# Altium schematic symbol library Finished.SchLib: 7 symbols
Pins are listed as number, name and electrical type; pins without a type are passive.

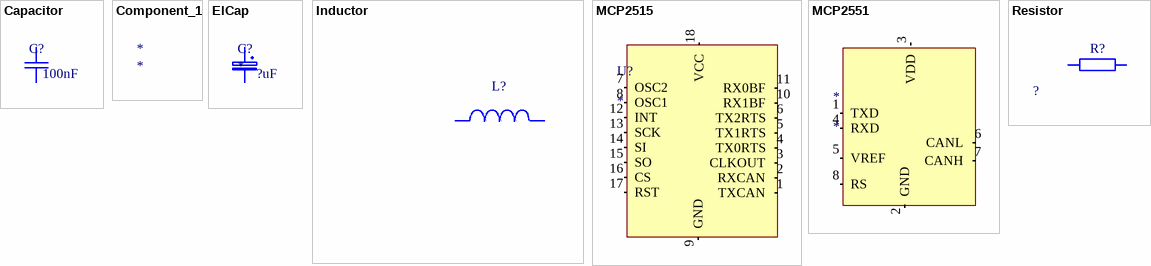
[diagram p0: symbols Capacitor to Resistor]

## Capacitor
designator C?  value 100nF
Voltage: 16V; Tolerance: 10%; Package: 0603
footprint 0603
pins: 1, 2

## Component_1
designator *

## ElCap
designator C?  value ?uF
Tolerance: 20%; Voltage: 16V
pins: 1, 2

## Inductor
designator L?
pins: 1, 2

## MCP2515
designator U?
ComponentLink1Description: MOUSER; ComponentLink1URL: https://no.mouser.com/ProductDetail/Microchip-Technology/MCP2515-I-SO?qs=KwArPi4cUogGDbGnphOvtQ==
footprint TSSOP 20-lead 4.4mm (TSOP, 20-Leads, Body 6.50x4.40mm, Pitch 0.65mm, IPC Low Density)
pins: 1 TXCAN, 2 RXCAN, 3 CLKOUT, 4 TX0RTS, 5 TX1RTS, 6 TX2RTS, 7 OSC2, 8 OSC1, 9 GND (power), 10 RX1BF, 11 RX0BF, 12 INT, 13 SCK (in), 14 SI (in), 15 SO (out), 16 CS, 17 RST, 18 VCC (power)

## MCP2551
designator *
ComponentLink1Description: MCP2551; ComponentLink1URL: https://no.mouser.com/datasheet/2/268/20001667G-1115479.pdf
footprint SOIC 8-LEAD SN (SOIC, 8-Leads, Body 4.90x3.90mm, Pitch 1.27mm, IPC Low Density)
pins: 1 TXD (out), 2 GND (power), 3 VDD (power), 4 RXD (in), 5 VREF (in), 6 CANL (io), 7 CANH (io), 8 RS (in)

## Resistor
designator R?
Tolerance: 1%; Power Rating: 1/4W; Package: 0602; Value: ?
footprint Res0603 (Chip Resistor, 2-Leads, Body 1,60x1,25mm, IPC Low Density)
pins: 1, 2